# EAGLE library part IS25LP064A-JBLE (library IS25LP064A-JBLE)
INTEGRATED SILICON SOLUTION (ISSI) - IS25LP064A-JBLE - NOR FLASH MEMORY 64MBIT, 133MHZ, SOIC-8 Source: Datasheet <https://componentsearchengine.com/Datasheets/1/IS25LP064A-JBLE.pdf>
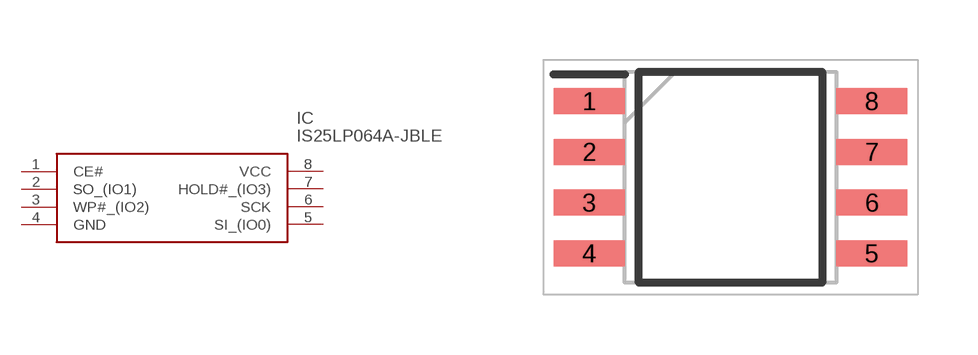
[diagram p0: symbol with the pads of SOIC127P790X216-8N; footprint SOIC127P790X216-8N]

Designator prefix IC

## IS25LP064A-JBLE (Description: INTEGRATED SILICON SOLUTION (ISSI) - IS25LP064A-JBLE - NOR FLASH MEMORY 64MBIT, 133MHZ, SOIC-8; Height: 2.16mm; Manufacturer_Name: Integrated Silicon Solution Inc.; Manufacturer_Part_Number: IS25LP064A-JBLE; Mouser_Part_Number: N/A; Mouser_Price-Stock: https://www.mouser.com/Search/Refine.aspx?Keyword=N%2FA)  [SOIC127P790X216-8N]
1  CE#
2  SO_(IO1)
3  WP#_(IO2)
4  GND
5  SI_(IO0)
6  SCK
7  HOLD#_(IO3)
8  VCC

## Footprint SOIC127P790X216-8N (pad centres in mm)
8 SOIC
smd 1.785 x 0.65: 1 -3.532,1.905; 2 -3.532,0.635; 3 -3.532,-0.635; 4 -3.532,-1.905; 5 3.532,-1.905; 6 3.532,-0.635; 7 3.532,0.635; 8 3.532,1.905